# EAGLE library part GUMSTIX_PINTO_40PIN (library Robot)
Expansion connector of the Pinto daughterboard for Gumstix Overo COMs
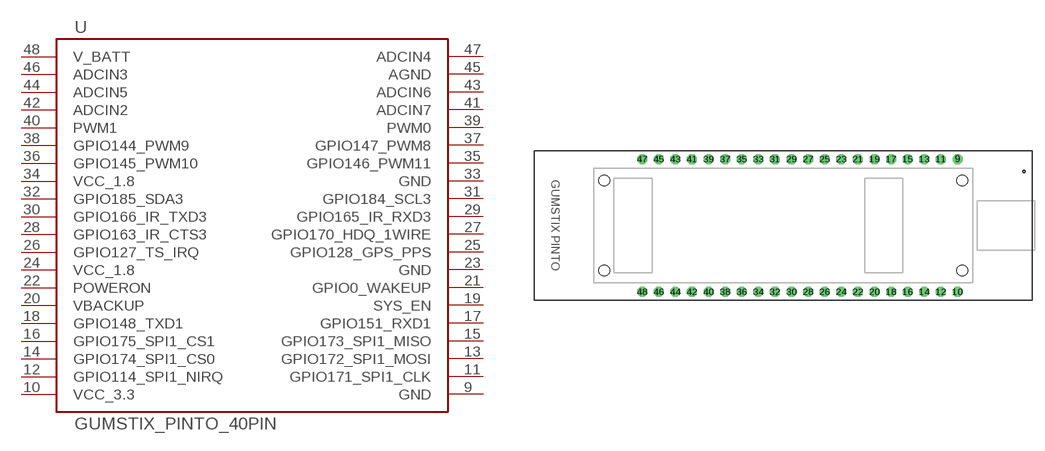
[diagram p20: symbol with the pads of GUMSTIX_PINTO_40PIN; footprint GUMSTIX_PINTO_40PIN]

Designator prefix -

## GUMSTIX_PINTO_40PIN_2X20  [GUMSTIX_PINTO_40PIN]
9  GND  pas
10  VCC_3.3  pas
11  GPIO171_SPI1_CLK  pas
12  GPIO114_SPI1_NIRQ  pas
13  GPIO172_SPI1_MOSI  pas
14  GPIO174_SPI1_CS0  pas
15  GPIO173_SPI1_MISO  pas
16  GPIO175_SPI1_CS1  pas
17  GPIO151_RXD1  pas
18  GPIO148_TXD1  pas
19  SYS_EN  pas
20  VBACKUP  pas
21  GPIO0_WAKEUP  pas
22  POWERON  pas
23  GND  pas
24  VCC_1.8  pas
25  GPIO128_GPS_PPS  pas
26  GPIO127_TS_IRQ  pas
27  GPIO170_HDQ_1WIRE  pas
28  GPIO163_IR_CTS3  pas
29  GPIO165_IR_RXD3  pas
30  GPIO166_IR_TXD3  pas
31  GPIO184_SCL3  pas
32  GPIO185_SDA3  pas
33  GND  pas
34  VCC_1.8  pas
35  GPIO146_PWM11  pas
36  GPIO145_PWM10  pas
37  GPIO147_PWM8  pas
38  GPIO144_PWM9  pas
39  PWM0  pas
40  PWM1  pas
41  ADCIN7  pas
42  ADCIN2  pas
43  ADCIN6  pas
44  ADCIN5  pas
45  AGND  pas
46  ADCIN3  pas
47  ADCIN4  pas
48  V_BATT  pas

## Footprint GUMSTIX_PINTO_40PIN (pad centres in mm)
Gumstix Pinto Footprint of the Pinto daughterboard for Gumstix Overo COMs
drill 1.016 octagon: 9 64.77,21.59; 10 64.77,1.27; 11 62.23,21.59; 12 62.23,1.27; 13 59.69,21.59; 14 59.69,1.27; 15 57.15,21.59; 16 57.15,1.27; 17 54.61,21.59; 18 54.61,1.27; 19 52.07,21.59; 20 52.07,1.27; 21 49.53,21.59; 22 49.53,1.27; 23 46.99,21.59; 24 46.99,1.27; 25 44.45,21.59; 26 44.45,1.27; 27 41.91,21.59; 28 41.91,1.27; 29 39.37,21.59; 30 39.37,1.27; 31 36.83,21.59; 32 36.83,1.27; 33 34.29,21.59; 34 34.29,1.27; 35 31.75,21.59; 36 31.75,1.27; 37 29.21,21.59; 38 29.21,1.27; 39 26.67,21.59; 40 26.67,1.27; 41 24.13,21.59; 42 24.13,1.27; 43 21.59,21.59; 44 21.59,1.27; 45 19.05,21.59; 46 19.05,1.27; 47 16.51,21.59; 48 16.51,1.27
hole 1.65 at 65.5,18.33
hole 1.65 at 65.5,4.53
hole 1.65 at 10.7,18.33
hole 1.65 at 10.7,4.53